# Altium footprint library PcbLib1.PcbLib: 4 footprints
Each footprint in its own frame and in the unit in brackets; x right, y up, seen from the top. Pads: shape width x height; smd on the part's side, far side on the other; paste and mask are expansions set on the pad; w line width, h text height; cw(c..) or ccw(c..) is an arc to the next point about the centre after c.
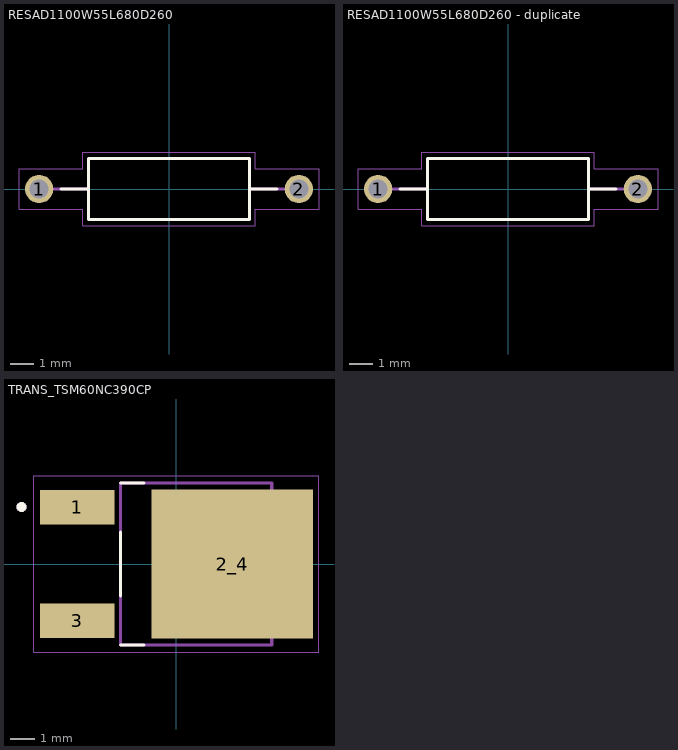
[diagram p0: the footprints below, top view; thin cyan lines are the x and y axes]

## PCBComponent_1 [mm]

## RESAD1100W55L680D260 [mm]
pads (2):
  round 1.2 hole 0.8: 1(-5.5,0) 2(5.5,0)
Top Overlay:
  lines w0.127: -4.58,0 -3.4,0 ; 4.58,0 3.4,0 ; -3.4,0 -3.4,1.3 3.4,1.3 3.4,0 ; -3.4,0 -3.4,-1.3 3.4,-1.3 3.4,0
Mechanical 13:
  lines w0.127: -4.9,0 -3.4,0 ; 4.9,0 3.4,0 ; -3.4,0 -3.4,1.3 3.4,1.3 3.4,0 ; -3.4,0 -3.4,-1.3 3.4,-1.3 3.4,0
Mechanical 15:
  lines w0.05: -6.35,-0.85 -3.65,-0.85 -3.65,-1.55 3.65,-1.55 3.65,-0.85 6.35,-0.85 6.35,0.85 3.65,0.85 3.65,1.55 -3.65,1.55 -3.65,0.85 -6.35,0.85 -6.35,-0.85

## RESAD1100W55L680D260 - duplicate [mm]
height 2.6
pads (2):
  round 1.2 hole 0.8: 1(-5.5,0) 2(5.5,0)
Top Overlay:
  lines w0.127: -4.58,0 -3.4,0 ; 4.58,0 3.4,0 ; -3.4,0 -3.4,-1.3 3.4,-1.3 3.4,0 ; -3.4,0 -3.4,1.3 3.4,1.3 3.4,0
Mechanical 13:
  lines w0.127: -4.9,0 -3.4,0 ; 4.9,0 3.4,0 ; -3.4,0 -3.4,-1.3 3.4,-1.3 3.4,0 ; -3.4,0 -3.4,1.3 3.4,1.3 3.4,0
Mechanical 15:
  lines w0.05: -6.35,-0.85 -6.35,0.85 -3.65,0.85 -3.65,1.55 3.65,1.55 3.65,0.85 6.35,0.85 6.35,-0.85 3.65,-0.85 3.65,-1.55 -3.65,-1.55 -3.65,-0.85 -6.35,-0.85
3D body "step_temp.STEP": height 2.6, standoff -25.53, extent -5.775,-1.3 5.775,1.3

## TRANS_TSM60NC390CP [mm]
height 2.39
pads (3):
  rect 3x1.4 smd: 1(-4,2.29) 3(-4,-2.29)
  rect 6.5x6 smd paste-4: 2_4(2.25,0)
Top Overlay:
  circle w0.2: c-6.25,2.3 r0.1
  lines w0.127: -2.257,-3.27 -1.32,-3.27 ; -2.257,-1.28 -2.257,1.28 ; -2.257,3.27 -1.32,3.27
Top Paste:
  region: 5.11,-2.425 3.71,-2.425 3.71,-0.575 5.11,-0.575
  region: 2.95,-2.425 1.55,-2.425 1.55,-0.575 2.95,-0.575
  region: 0.79,-2.425 -0.61,-2.425 -0.61,-0.575 0.79,-0.575
  region: 0.79,0.575 -0.61,0.575 -0.61,2.425 0.79,2.425
  region: 5.11,0.575 3.71,0.575 3.71,2.425 5.11,2.425
  region: 2.95,0.575 1.55,0.575 1.55,2.425 2.95,2.425
Mechanical 13:
  circle w0.2: c-6.25,2.3 r0.1
  lines w0.127: -2.257,-3.27 3.843,-3.27 3.843,3.27 -2.257,3.27 -2.257,-3.27
Mechanical 15:
  lines w0.05: -5.75,-3.55 5.75,-3.55 5.75,3.55 -5.75,3.55 -5.75,-3.55
3D body "step_temp.STEP": height 2.39, standoff -0.13, extent -4.952,-3.27 4.952,3.27